# Altium footprint library WE-SCFA.PcbLib: 17 footprints (part 2 of 2)
Each footprint in its own frame and in the unit in brackets; x right, y up, seen from the top. Pads: shape width x height; smd on the part's side, far side on the other; paste and mask are expansions set on the pad; w line width, h text height; cw(c..) or ccw(c..) is an arc to the next point about the centre after c.
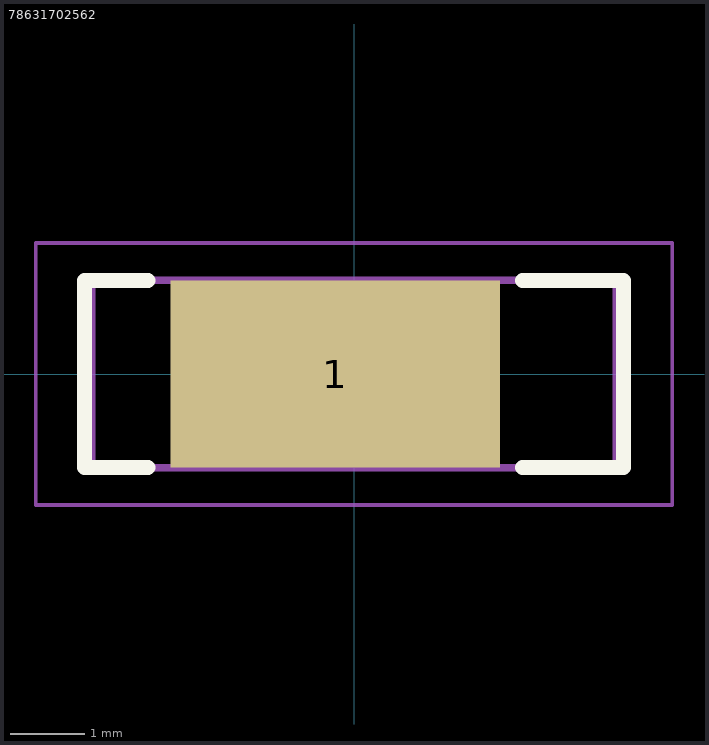
[diagram p1: the footprint, top view; thin cyan lines are the x and y axes]

## 78631702562 [mm] "SMD EMI Contact Finger, 7x2.5mm"
height 6.4
pads (1):
  rect 4.4x2.5 smd: 1(-0.25,0)
Top Overlay:
  lines w0.2: -2.75,-1.25 -3.6,-1.25 -3.6,1.25 -2.75,1.25 ; 2.25,-1.25 3.6,-1.25 3.6,1.25 2.25,1.25
Top Designator:
  text ".Designator" at -5.998,-0.4 h1.2
Top Component Outline:
  lines w0.1: -3.5,-1.25 3.5,-1.25 3.5,1.25 -3.5,1.25 -3.5,-1.25
Top 3D Body:
  lines w0.1: -3.5,-1.25 -3.5,1.25 3.5,1.25 3.5,-1.25 -3.5,-1.25
Top Courtyard:
  lines w0.05: -0.5,0 0.5,0 ; 0,-0.5 0,0.5 ; -4.25,-1.75 4.25,-1.75 4.25,1.75 -4.25,1.75 -4.25,-1.75
3D body "78631702562.stp": height 6.2, standoff 0, extent -3.5,-1.25 3.498,1.25